# EAGLE library part MAX3100 (library Minero)
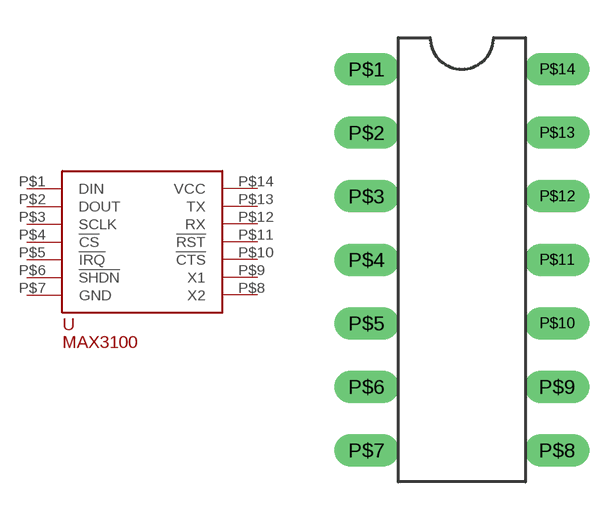
[diagram p0: symbol with the pads of DIP14; footprint DIP14]

Designator prefix -

## MAX3100  [DIP14]
P$1  DIN
P$2  DOUT
P$3  SCLK
P$4  !CS!
P$5  !IRQ!
P$6  !SHDN!
P$7  GND
P$8  X2
P$9  X1
P$10  !CTS!
P$11  !RST!
P$12  RX
P$13  TX
P$14  VCC

## Footprint DIP14 (pad centres in mm)
drill 0.8 long: P$1 -7.62,0; P$2 -7.62,-2.54; P$3 -7.62,-5.08; P$4 -7.62,-7.62; P$5 -7.62,-10.16; P$6 -7.62,-12.7; P$7 -7.62,-15.24; P$8 0,-15.24; P$9 0,-12.7; P$10 0,-10.16; P$11 0,-7.62; P$12 0,-5.08; P$13 0,-2.54; P$14 0,0